# Altium integrated library RSX_Mechanicals.IntLib: 3 symbols
Pins are listed as number, name and electrical type; pins without a type are passive.

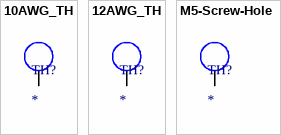
[diagram p0: symbols 10AWG_TH to M5-Screw-Hole]

## 10AWG_TH
designator TH?
footprint 10AWG_Wire_TH (21.25mm Dia: 28mm Pad)
pins: 1

## 12AWG_TH
designator TH?
footprint 12AWG_Wire_TH (21.25mm Dia: 28mm Pad)
pins: 1

## M5-Screw-Hole
designator TH?
footprint M5_Screw_Hole
pins: 1